# Altium footprint library SpectrumAnalyzer_Footprints.PcbLib: 23 footprints (part 1 of 2)
Each footprint in its own frame and in the unit in brackets; x right, y up, seen from the top. Pads: shape width x height; smd on the part's side, far side on the other; paste and mask are expansions set on the pad; w line width, h text height; cw(c..) or ccw(c..) is an arc to the next point about the centre after c.
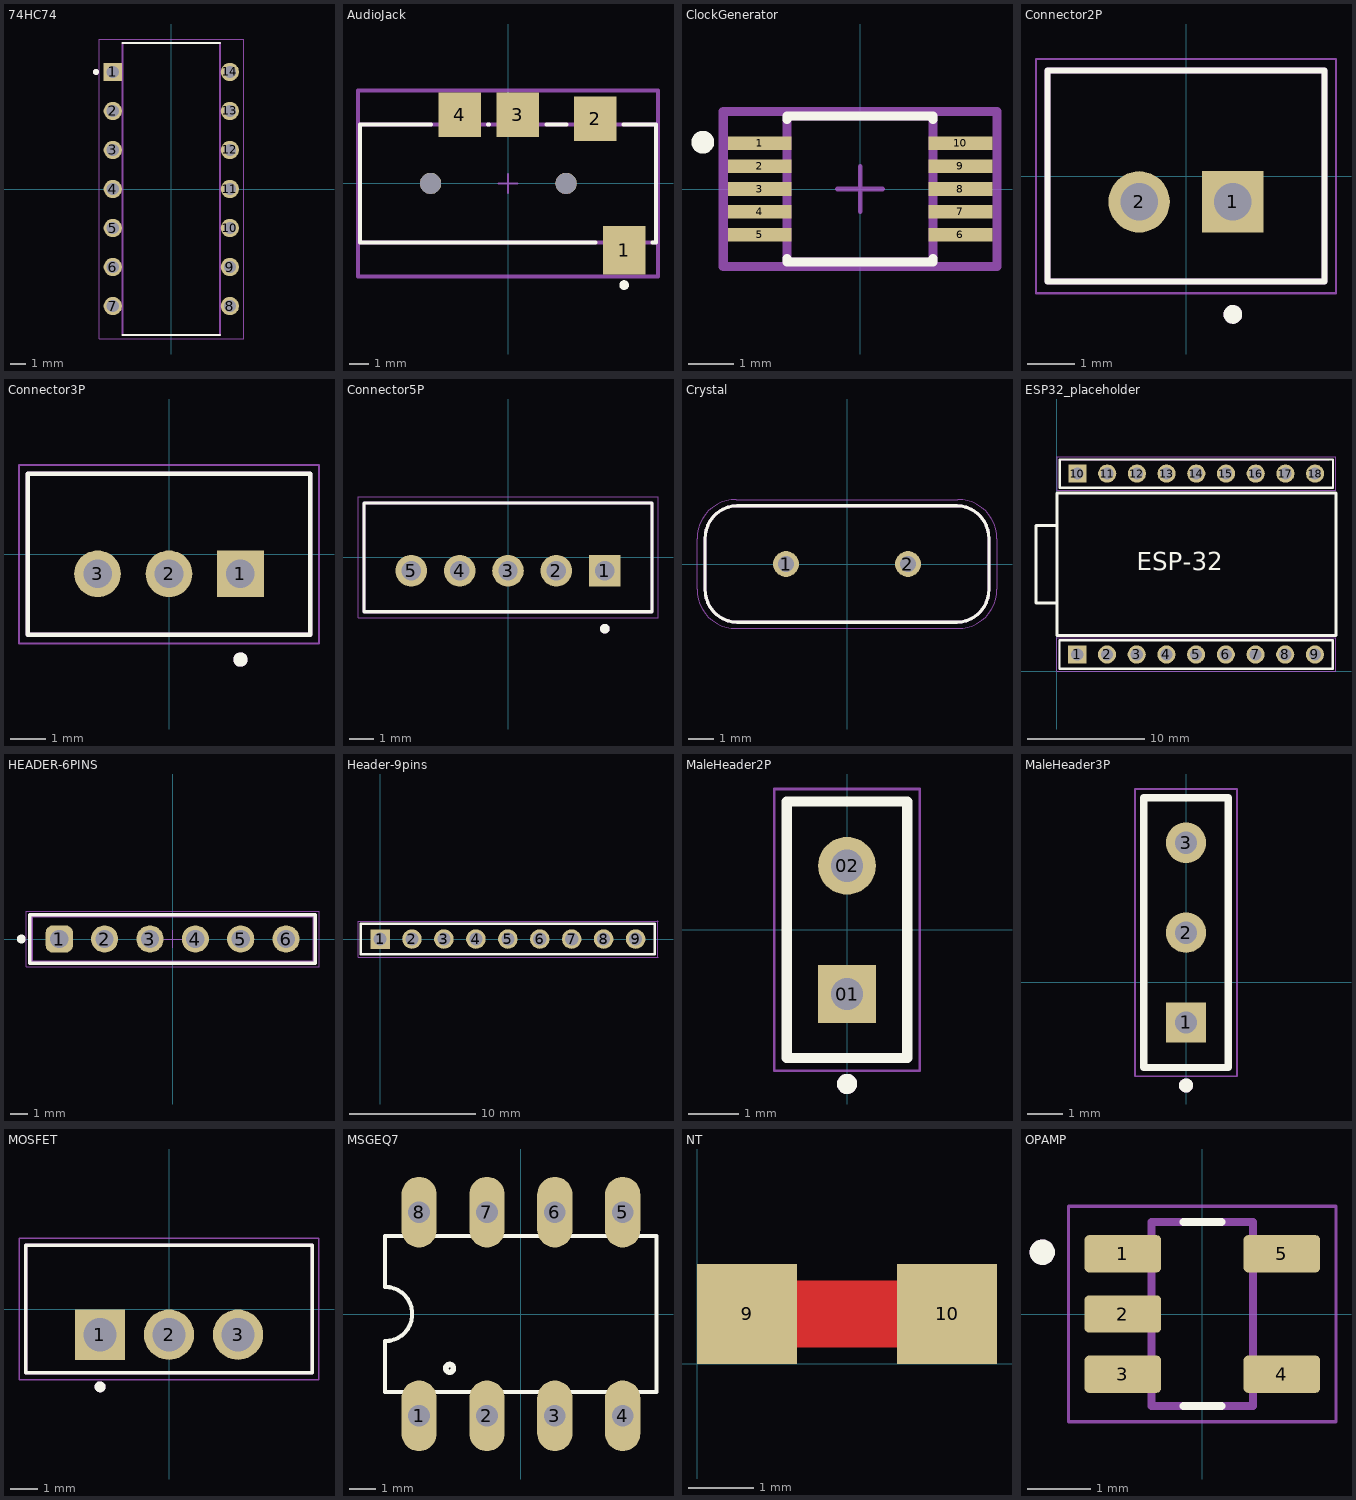
[diagram p0: the footprints below, top view; thin cyan lines are the x and y axes]

## 74HC74 [mm] "DIP762W45P254L1950H420Q14"
pads (14):
  rect 1.19x1.19 hole 0.79: 1(-3.81,7.62)
  round 1.19 hole 0.79: 2(-3.81,5.08) 3(-3.81,2.54) 4(-3.81,0) 5(-3.81,-2.54) 6(-3.81,-5.08) 7(-3.81,-7.62) 8(3.81,-7.62) 9(3.81,-5.08) 10(3.81,-2.54) 11(3.81,0) 12(3.81,2.54) 13(3.81,5.08) 14(3.81,7.62)
Top Overlay:
  circle w0.2: c-4.905,7.62 r0.1
  lines w0.127: -3.17,-9.513 3.17,-9.513 ; -3.17,9.513 3.17,9.513
Top 3D Body:
  circle w0.2: c-4.905,7.62 r0.1
  lines w0.127: -3.17,-9.513 3.17,-9.513 3.17,9.513 -3.17,9.513 -3.17,-9.513
Top Courtyard:
  lines w0.05: -4.7,-9.763 4.7,-9.763 4.7,9.763 -4.7,9.763 -4.7,-9.763
3D body "step_temp.STEP": height 4.2, standoff -3.6, extent -4.721,-9.513 4.721,9.513

## AudioJack [mm] "FP-SJ2-3574A-SMT-TR-MFG"
pads (6):
  rect 2.2x2.5 smd paste+0 mask+0: 1(6,-3.45)
  rect 2.2x2.3 smd paste+0 mask+0: 2(4.5,3.35) 3(0.5,3.55) 4(-2.5,3.55)
  round 1.1 hole 1.1 unplated paste-2539.97 mask+0: ""(-4,0) ""(3,0)
Top Overlay:
  circle w0.25: c6,-5.25 r0.125
  lines w0.2: -3.975,3.05 -7.65,3.05 -7.65,-3.05 4.525,-3.05 ; -1.025,3.05 -0.975,3.05 ; 1.975,3.05 3.025,3.05 ; 5.975,3.05 7.65,3.05 7.65,-3.05 7.475,-3.05
Top Assembly:
  lines w0.2: -7.75,-4.8 7.75,-4.8 7.75,4.8 -7.75,4.8 -7.75,-4.8
  text ".Designator" at 0,0.188 h1
Top 3D Body:
  lines w0.2: -7.65,-3.05 7.65,-3.05 7.65,3.05 -7.65,3.05 -7.65,-3.05
Top Courtyard:
  lines w0.2: -7.75,-4.8 7.75,-4.8 7.75,4.8 -7.75,4.8 -7.75,-4.8
Top Component Center:
  lines w0.1: -0.5,0 0.5,0 ; 0,-0.5 0,0.5
3D body "Conn_CUI_SJ2-3574A-SMT-TR_eec.STEP": height 0.25, standoff 0, extent -7.75,-4.8 7.75,4.8

## ClockGenerator [mm] "FP-SI5351A-B-GTR-MFG"
pads (10):
  rect 1.4x0.3 smd paste+0 mask+0: 1(-2.2,1) 2(-2.2,0.5) 3(-2.2,0) 4(-2.2,-0.5) 5(-2.2,-1) 6(2.2,-1) 7(2.2,-0.5) 8(2.2,0) 9(2.2,0.5) 10(2.2,1)
Top Overlay:
  circle w0.25: c-3.45,1.025 r0.125
  lines w0.2: -1.6,-1.525 -1.6,-1.6 1.6,-1.6 1.6,-1.525 ; -1.6,1.525 -1.6,1.6 1.6,1.6 1.6,1.525
Top Assembly:
  lines w0.2: -3,-1.7 -3,1.7 3,1.7 3,-1.7 -3,-1.7
  text ".Designator" at 0,0.188 h1
Top 3D Body:
  lines w0.2: -1.6,-1.6 -1.6,1.6 1.6,1.6 1.6,-1.6 -1.6,-1.6
Top Courtyard:
  lines w0.2: -3,-1.7 -3,1.7 3,1.7 3,-1.7 -3,-1.7
Top Component Center:
  lines w0.1: -0.5,0 0.5,0 ; 0,-0.5 0,0.5
3D body "IC_Silicon_Laboratories_SI5351A-B-GTR_eec.STEP": height 0.25, standoff 0, extent -3,-1.7 3,1.7

## Connector2P [mm] "JST_B2B-PH-K-S"
pads (2):
  rect 1.308x1.308 / inner round 1.308 / far side rect 1.308x1.308 hole 0.8: 1(1,-0.55)
  round 1.308 hole 0.8: 2(-1,-0.55)
Top Overlay:
  circle w0.2: c1,-2.95 r0.1
  lines w0.127: -2.95,-2.25 2.95,-2.25 2.95,2.25 -2.95,2.25 -2.95,-2.25
Top 3D Body:
  circle w0.2: c1,-2.95 r0.1
  lines w0.127: -2.95,-2.25 -2.95,2.25 2.95,2.25 2.95,-2.25 -2.95,-2.25
Top Courtyard:
  lines w0.05: -3.2,-2.5 -3.2,2.5 3.2,2.5 3.2,-2.5 -3.2,-2.5
3D body "step_temp.STEP": height 6, standoff -3.4, extent -2.95,-2.25 2.95,2.25

## Connector3P [mm] "JST_B3B-PH-K-S"
pads (3):
  rect 1.308x1.308 / inner round 1.308 / far side rect 1.308x1.308 hole 0.8: 1(2,-0.55)
  round 1.308 hole 0.8: 2(0,-0.55) 3(-2,-0.55)
Top Overlay:
  circle w0.2: c2,-2.95 r0.1
  lines w0.127: -3.95,-2.25 -3.95,2.25 3.95,2.25 3.95,-2.25 -3.95,-2.25
Top 3D Body:
  circle w0.2: c2,-2.95 r0.1
  lines w0.127: -3.95,-2.25 3.95,-2.25 3.95,2.25 -3.95,2.25 -3.95,-2.25
Top Courtyard:
  lines w0.05: -4.2,-2.5 4.2,-2.5 4.2,2.5 -4.2,2.5 -4.2,-2.5

## Connector5P [mm] "JST_B5B-PH-K-S"
pads (5):
  rect 1.308x1.308 / inner round 1.308 / far side rect 1.308x1.308 hole 0.8: 1(4,-0.55)
  round 1.308 hole 0.8: 2(2,-0.55) 3(0,-0.55) 4(-2,-0.55) 5(-4,-0.55)
Top Overlay:
  circle w0.2: c4,-2.95 r0.1
  lines w0.127: -5.95,-2.25 -5.95,2.25 5.95,2.25 5.95,-2.25 -5.95,-2.25
Top 3D Body:
  circle w0.2: c4,-2.95 r0.1
  lines w0.127: -5.95,-2.25 5.95,-2.25 5.95,2.25 -5.95,2.25 -5.95,-2.25
Top Courtyard:
  lines w0.05: -6.2,-2.5 6.2,-2.5 6.2,2.5 -6.2,2.5 -6.2,-2.5

## Crystal [mm] "XTAL_ECS250204XFDN"
pads (2):
  round 1.03 hole 0.63: 1(-2.44,0) 2(2.44,0)
Top Overlay:
  lines w0.127: -5.675,-1.012 ccw(c-4.38,-1.035) -4.403,-2.33 ; -5.675,-1.01 -5.675,1.01 ; -5.675,1.012 cw(c-4.38,1.035) -4.403,2.33 ; -4.405,-2.33 4.405,-2.33 ; -4.405,2.33 4.405,2.33 ; 4.403,-2.33 ccw(c4.38,-1.035) 5.675,-1.012 ; 4.403,2.33 cw(c4.38,1.035) 5.675,1.012 ; 5.675,-1.01 5.675,1.01
Top 3D Body:
  lines w0.127: -5.675,-1.012 ccw(c-4.38,-1.035) -4.403,-2.33 ; -5.675,-1.01 -5.675,1.01 ; -5.675,1.012 cw(c-4.38,1.035) -4.403,2.33 ; -4.405,-2.33 4.405,-2.33 ; -4.405,2.33 4.405,2.33 ; 4.403,-2.33 ccw(c4.38,-1.035) 5.675,-1.012 ; 4.403,2.33 cw(c4.38,1.035) 5.675,1.012 ; 5.675,-1.01 5.675,1.01
Top Courtyard:
  lines w0.05: -6,-1.01 ccw(c-4.43,-1.01) -4.43,-2.58 4.43,-2.58 ccw(c4.43,-1.01) 6,-1.01 6,1.01 ccw(c4.43,1.01) 4.43,2.58 -4.43,2.58 ccw(c-4.43,1.01) -6,1.01 -6,-1.01
3D body "step_temp.STEP": height 3.5, standoff -12.7, extent -5.675,-2.325 5.675,2.325

## ESP32_placeholder [mm]
pads (18):
  rect 1.55x1.55 hole 1.04: 1(1.754,1.434) 10(1.769,16.903)
  round 1.55 hole 1.04: 2(4.294,1.434) 3(6.834,1.434) 4(9.374,1.434) 5(11.914,1.434) 6(14.454,1.434) 7(16.994,1.434) 8(19.534,1.434) 9(22.074,1.434) 11(4.309,16.903) 12(6.849,16.903) 13(9.389,16.903) 14(11.929,16.903) 15(14.469,16.903) 16(17.009,16.903) 17(19.549,16.903) 18(22.089,16.903)
Top Overlay:
  lines w0.2: 0.229,0.229 0.229,2.639 23.598,2.639 23.598,0.229 0.229,0.229 ; 0.244,15.698 0.244,18.108 23.613,18.108 23.613,15.698 0.244,15.698
  lines w0.254: -1.778,5.842 0,5.842 0,12.446 -1.778,12.446 -1.778,5.842 ; 0,3.048 23.876,3.048 23.876,15.24 0,15.24 0,3.048
  text "ESP-32" at 6.858,8.636 h1.52
Top 3D Body:
  lines w0.1: 23.219,0.229 0.229,0.229 0.229,2.639 23.219,2.639 ; 23.234,15.698 0.244,15.698 0.244,18.108 23.234,18.108 ; 23.599,0.229 23.599,0.831 23.599,2.036 23.599,2.639 ; 23.614,15.698 23.614,16.3 23.614,17.505 23.614,18.108
Top Courtyard:
  lines w0.05: 23.852,0.011 23.852,2.871 ; 23.854,0.004 0.004,0.004 0.004,2.864 23.854,2.864 ; 23.867,15.48 23.867,18.34 ; 23.869,15.473 0.019,15.473 0.019,18.333 23.869,18.333
3D body: height 5, standoff 0, extent 0.22,15.683 23.639,18.123
3D body: height 5, standoff 0, extent 0.204,0.213 23.623,2.654

## HEADER-6PINS [mm] "Socket Header, Pitch 2.54 mm, THT, Vertical, single row, 6p"
height 8.5
pads (6):
  rrect50% 1.52x1.52 hole 1.02: 1(-6.35,0)
  round 1.52 hole 1.02: 2(-3.81,0) 3(-1.27,0) 4(1.27,0) 5(3.81,0) 6(6.35,0)
Top Overlay:
  circle w0.25: c-8.48,0 r0.125
  lines w0.2: -7.995,-1.35 -7.995,1.35 7.995,1.35 7.995,-1.35 -7.995,-1.35
Top Designator:
  text ".Designator" at -7.498,-0.5 h1.5
Top Component Outline:
  lines w0.1: -7.87,-1.25 -7.87,1.25 7.87,1.25 7.87,-1.25 -7.87,-1.25
Top Courtyard:
  lines w0.05: -8.195,-1.55 -8.195,1.55 8.195,1.55 8.195,-1.55 -8.195,-1.55
Top Component Center:
  lines w0.05: -0.5,0 0.5,0 ; 0,-0.5 0,0.5
3D body "61300611821.stp": height 8.55, standoff -3.06, extent -7.87,-1.25 7.87,1.25

## Header-9pins [mm] "SMTC-SSW-112-01-X-S   SQ Post Socket, 1x12 Pins, Vertical, 2.54mm Pitch, Female"
height 8.51
pads (9):
  rect 1.55x1.55 hole 1.04: 1(0,0)
  round 1.55 hole 1.04: 2(2.54,0) 3(5.08,0) 4(7.62,0) 5(10.16,0) 6(12.7,0) 7(15.24,0) 8(17.78,0) 9(20.32,0)
Top Overlay:
  lines w0.2: -1.525,-1.205 -1.525,1.205 21.844,1.205 21.844,-1.205 -1.525,-1.205
Top 3D Body:
  lines w0.1: 21.465,-1.205 -1.525,-1.205 -1.525,1.205 21.465,1.205 ; 21.845,-1.205 21.845,-0.603 21.845,0.602 21.845,1.205
Top Courtyard:
  lines w0.05: 22.098,-1.422 22.098,1.438 ; 22.1,-1.43 -1.75,-1.43 -1.75,1.43 22.1,1.43
3D body: height 5, standoff 0, extent -1.549,-1.219 21.869,1.221

## MaleHeader2P [mil] "SAMTEC_TD-101-X-A"
height 325.98
pads (2):
  rect 45x45 / inner round 45 / far side rect 45x45 hole 25: 01(0,-50)
  round 45 hole 25: 02(0,50)
Top Overlay:
  circle w7.87: c0,-120.08 r3.94
  lines w7.87: -47,-100 -47,100 47,100 47,-100 -47,-100
Top 3D Body:
  circle w7.87: c0,-120.08 r3.94
  lines w3.94: -47,-100 -47,100 47,100 47,-100 -47,-100
Top Courtyard:
  lines w1.97: -56.84,-109.84 -56.84,109.84 56.84,109.84 56.84,-109.84 -56.84,-109.84

## MaleHeader3P [mil] "SAMTEC_TD-101-X-A"
height 325.98
pads (3):
  rect 45x45 / inner round 45 / far side rect 45x45 hole 25: 1(0,-45)
  round 45 hole 25: 2(0,55) 3(0,155)
Top Overlay:
  circle w7.87: c0,-115.08 r3.94
  lines w7.87: -47,105 -47,-95 47,-95 47,105
  lines w8: -47,105 -47,205 47,205 47,105
Top 3D Body:
  circle w7.87: c0,-115.08 r3.94
  lines w3.94: -47,105 -47,-95 47,-95 47,105 ; -47,205 -23.5,205 23.5,205 47,205
  lines w4: -47,105 -47,205 ; 47,105 47,205
Top Courtyard:
  lines w1.97: -56.84,114.84 -56.84,-104.84 56.84,-104.84 56.84,114.84 ; -56.84,214.84 56.84,214.84
  lines w2: -56.84,114.84 -56.84,214.84 ; 56.84,114.84 56.84,214.84

## MOSFET [mm] "TO254P1054X469X1930-3"
height 19.3
pads (3):
  rect 1.85x1.85 / inner round 1.85 / far side rect 1.85x1.85 hole 1.23: 1(-2.54,-0.94)
  round 1.85 hole 1.23: 2(0,-0.94) 3(2.54,-0.94)
Top Overlay:
  circle w0.2: c-2.54,-2.86 r0.1
  lines w0.127: -5.27,-2.35 -5.27,2.35 5.27,2.35 5.27,-2.35 -5.27,-2.35
Top 3D Body:
  circle w0.2: c-2.54,-2.86 r0.1
  lines w0.127: -5.27,-2.35 5.27,-2.35 5.27,2.35 -5.27,2.35 -5.27,-2.35
Top Courtyard:
  lines w0.05: -5.52,-2.6 -5.52,2.6 5.52,2.6 5.52,-2.6 -5.52,-2.6
3D body "step_temp.STEP": height 15.01, standoff -10.39, extent -5.08,-2.667 5.08,1.778

## MSGEQ7 [mil] "DIL-08"
pads (8):
  oval 52x104 hole 32: 1(-150,-150) 2(-50,-150) 3(50,-150) 4(150,-150) 5(150,150) 6(50,150) 7(-50,150) 8(-150,150)
Top Overlay:
  circle w8: c-105,-80 r5.65
  lines w6: -200,-115 200,-115 200,115 -200,115 -200,40 cw(c-200,0) -200,-40 -200,-115

## NT [mil]
pads (2):
  rect 60x60 smd: 9(30,30) 10(150,30)
Top Layer:
  rectangle: 50,10 130,50

## OPAMP [mm] "SOT95P280X145-5N"
pads (5):
  rrect25% 1.21x0.59 smd: 1(-1.255,0.95) 2(-1.255,0) 3(-1.255,-0.95) 4(1.255,-0.95) 5(1.255,0.95)
Top Overlay:
  circle w0.2: c-2.525,0.975 r0.1
  lines w0.127: -0.3,-1.45 0.3,-1.45 ; -0.3,1.45 0.3,1.45
Top 3D Body:
  circle w0.2: c-2.525,0.975 r0.1
  lines w0.127: -0.8,-1.45 -0.8,1.45 0.8,1.45 0.8,-1.45 -0.8,-1.45
Top Courtyard:
  lines w0.05: -2.11,-1.7 2.11,-1.7 2.11,1.7 -2.11,1.7 -2.11,-1.7
3D body "step_temp.STEP": height 1.45, standoff 0, extent -1.4,-1.45 1.4,1.45